# EAGLE library part MAX6818 (library xmaxim)
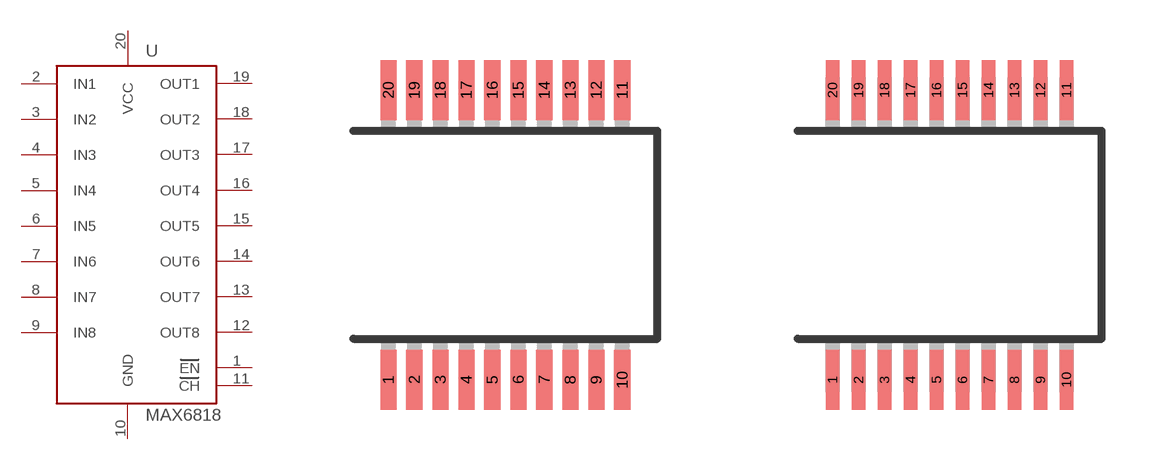
[diagram p0: symbol with the pads of SSOP20; footprints SSOP20, SSOP20_SMALL]

Designator prefix -

## MAX6818A  [SSOP20]
1  EN  in
2  IN1  in
3  IN2  in
4  IN3  in
5  IN4  in
6  IN5  in
7  IN6  in
8  IN7  in
9  IN8  in
10  GND  pwr
11  CH  in
12  OUT8  out
13  OUT7  out
14  OUT6  out
15  OUT5  out
16  OUT4  out
17  OUT3  out
18  OUT2  out
19  OUT1  out
20  VCC  pwr

## MAX6818SMALL  [SSOP20_SMALL]
Pads as for SSOP20

## Footprint SSOP20 (pad centres in mm)
Shrink Small Outline Package package type SS
smd 0.4 x 1.5: 1 -2.925,-3.625; 2 -2.275,-3.625; 3 -1.625,-3.625; 4 -0.975,-3.625; 5 -0.325,-3.625; 6 0.325,-3.625; 7 0.975,-3.625; 8 1.625,-3.625; 9 2.275,-3.625; 10 2.925,-3.625; 11 2.925,3.625; 12 2.275,3.625; 13 1.625,3.625; 14 0.975,3.625; 15 0.325,3.625; 16 -0.325,3.625; 17 -0.975,3.625; 18 -1.625,3.625; 19 -2.275,3.625; 20 -2.925,3.625

## Footprint SSOP20_SMALL (pad centres in mm)
smd 0.349 x 1.5: 1 -2.925,-3.625; 2 -2.275,-3.625; 3 -1.625,-3.625; 4 -0.975,-3.625; 5 -0.325,-3.625; 6 0.325,-3.625; 7 0.975,-3.625; 8 1.625,-3.625; 9 2.275,-3.625; 10 2.925,-3.625; 11 2.925,3.625; 12 2.275,3.625; 13 1.625,3.625; 14 0.975,3.625; 15 0.325,3.625; 16 -0.325,3.625; 17 -0.975,3.625; 18 -1.625,3.625; 19 -2.275,3.625; 20 -2.925,3.625